# EAGLE library part SC_SOCKET (library lib_stankus)
SC socket Farnell #1518962, #9652345, #1284402
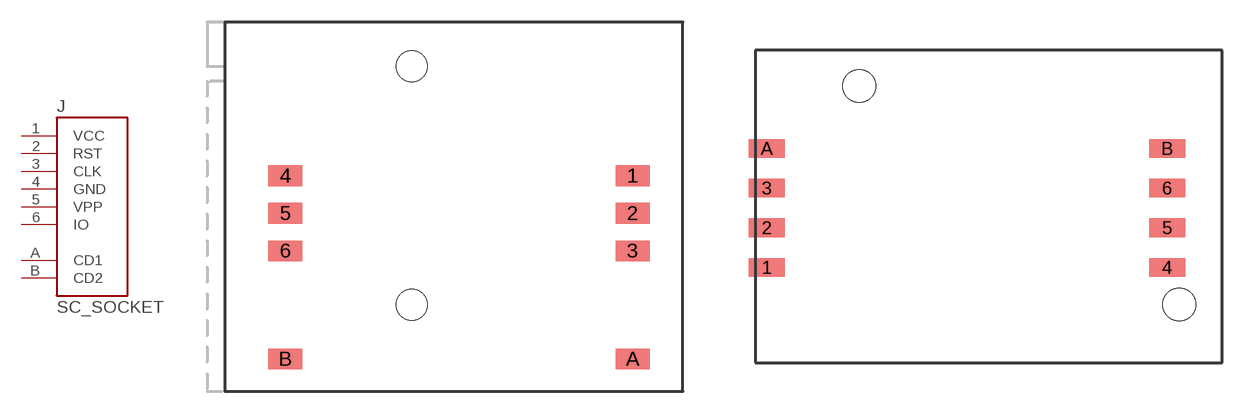
[diagram p44: symbol with the pads of SC_SOCKET_TRAY; footprints SC_SOCKET_TRAY, SC_SOCKET_TOP]

Designator prefix J

## SC_SOCKET-TRAY  [SC_SOCKET_TRAY]
1  VCC  pas
2  RST  pas
3  CLK  pas
4  GND  pas
5  VPP  pas
6  IO  pas
A  CD1  pas
B  CD2  pas

## SC_SOCKET-TOP  [SC_SOCKET_TOP]
Pads as for SC_SOCKET_TRAY

## Footprint SC_SOCKET_TRAY (pad centres in mm)
SC SOCKET - TRAY
smd 2.3 x 1.4: 1 12.07,2.24; 2 12.07,-0.3; 3 12.07,-2.84; 4 -11.43,2.24; 5 -11.43,-0.3; 6 -11.43,-2.84; A 12.07,-10.16; B -11.43,-10.16
hole 2.1 at -2.88,-6.5
hole 2.1 at -2.88,9.64

## Footprint SC_SOCKET_TOP (pad centres in mm)
SC SOCKET - TOP
smd 2.3 x 1.2: 1 -14.21,-3.9; 2 -14.21,-1.36; 3 -14.21,1.18; 4 11.43,-3.9; 5 11.43,-1.36; 6 11.43,1.18; A -14.21,3.72; B 11.43,3.72
hole 2.1 at 12.2,-6.28
hole 2.1 at -8.3,7.72